# EAGLE library part PINHD-1X20 (library pinhead+)
PIN HEADER
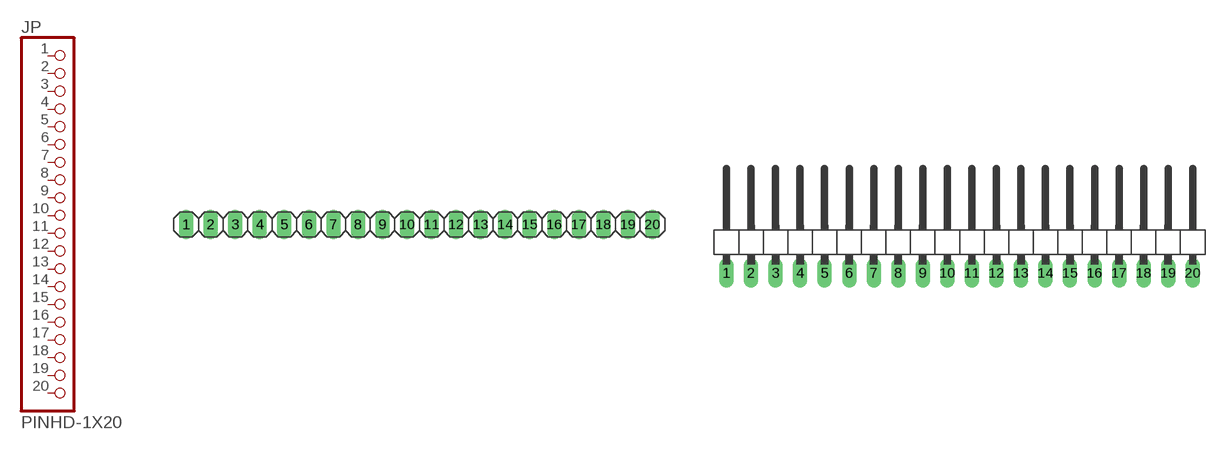
[diagram p14: symbol with the pads of 1X20; footprints 1X20, 1X20/90]

Designator prefix JP

## PINHD-1X20  [1X20]
1  1  pas
2  2  pas
3  3  pas
4  4  pas
5  5  pas
6  6  pas
7  7  pas
8  8  pas
9  9  pas
10  10  pas
11  11  pas
12  12  pas
13  13  pas
14  14  pas
15  15  pas
16  16  pas
17  17  pas
18  18  pas
19  19  pas
20  20  pas

## PINHD-1X20/90  [1X20/90]
Pads as for 1X20

## PINHD-1X201X20SMT  [1X20_SMT]
Pads as for 1X20

## Footprint 1X20 (pad centres in mm)
PIN HEADER
drill 1.016 long: 1 -24.13,0; 2 -21.59,0; 3 -19.05,0; 4 -16.51,0; 5 -13.97,0; 6 -11.43,0; 7 -8.89,0; 8 -6.35,0; 9 -3.81,0; 10 -1.27,0; 11 1.27,0; 12 3.81,0; 13 6.35,0; 14 8.89,0; 15 11.43,0; 16 13.97,0; 17 16.51,0; 18 19.05,0; 19 21.59,0; 20 24.13,0

## Footprint 1X20/90 (pad centres in mm)
PIN HEADER
drill 1.016 long: 1 -24.13,-3.81; 2 -21.59,-3.81; 3 -19.05,-3.81; 4 -16.51,-3.81; 5 -13.97,-3.81; 6 -11.43,-3.81; 7 -8.89,-3.81; 8 -6.35,-3.81; 9 -3.81,-3.81; 10 -1.27,-3.81; 11 1.27,-3.81; 12 3.81,-3.81; 13 6.35,-3.81; 14 8.89,-3.81; 15 11.43,-3.81; 16 13.97,-3.81; 17 16.51,-3.81; 18 19.05,-3.81; 19 21.59,-3.81; 20 24.13,-3.81

## Footprint 1X20_SMT (pad centres in mm)
smd 1 x 2.5: 1 -24.13,1.52; 2 -21.59,-1.52; 3 -19.05,1.52; 4 -16.51,-1.52; 5 -13.97,1.52; 6 -11.43,-1.52; 7 -8.89,1.52; 8 -6.35,-1.52; 9 -3.81,1.52; 10 -1.27,-1.52; 11 1.27,1.52; 12 3.81,-1.52; 13 6.35,1.52; 14 8.89,-1.52; 15 11.43,1.52; 16 13.97,-1.52; 17 16.51,1.52; 18 19.05,-1.52; 19 21.59,1.52; 20 24.13,-1.52